# Altium schematic symbol library OPA4727.SchLib: 1 symbol
Pins are listed as number, name and electrical type; pins without a type are passive.

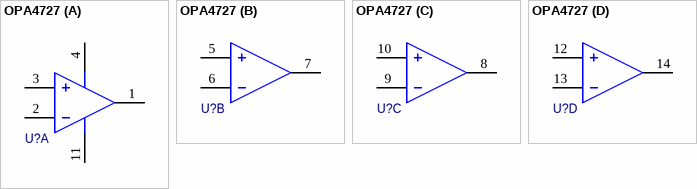
[diagram p0: symbol OPA4727]

## OPA4727
designator U?
part A pins: 1 OUT A, 2 -IN A, 3 +IN A, 4 V+, 11 V-
part B pins: 5 +IN B, 6 -IN B, 7 OUT B
part C pins: 8 OUT C, 9 -IN C, 10 +IN C
part D pins: 12 +IN D, 13 -IN D, 14 OUT D